# Altium footprint library Discrete.PCBLIB: 128 footprints (part 1 of 8)
Each footprint in its own frame and in the unit in brackets; x right, y up, seen from the top. Pads: shape width x height; smd on the part's side, far side on the other; paste and mask are expansions set on the pad; w line width, h text height; cw(c..) or ccw(c..) is an arc to the next point about the centre after c.
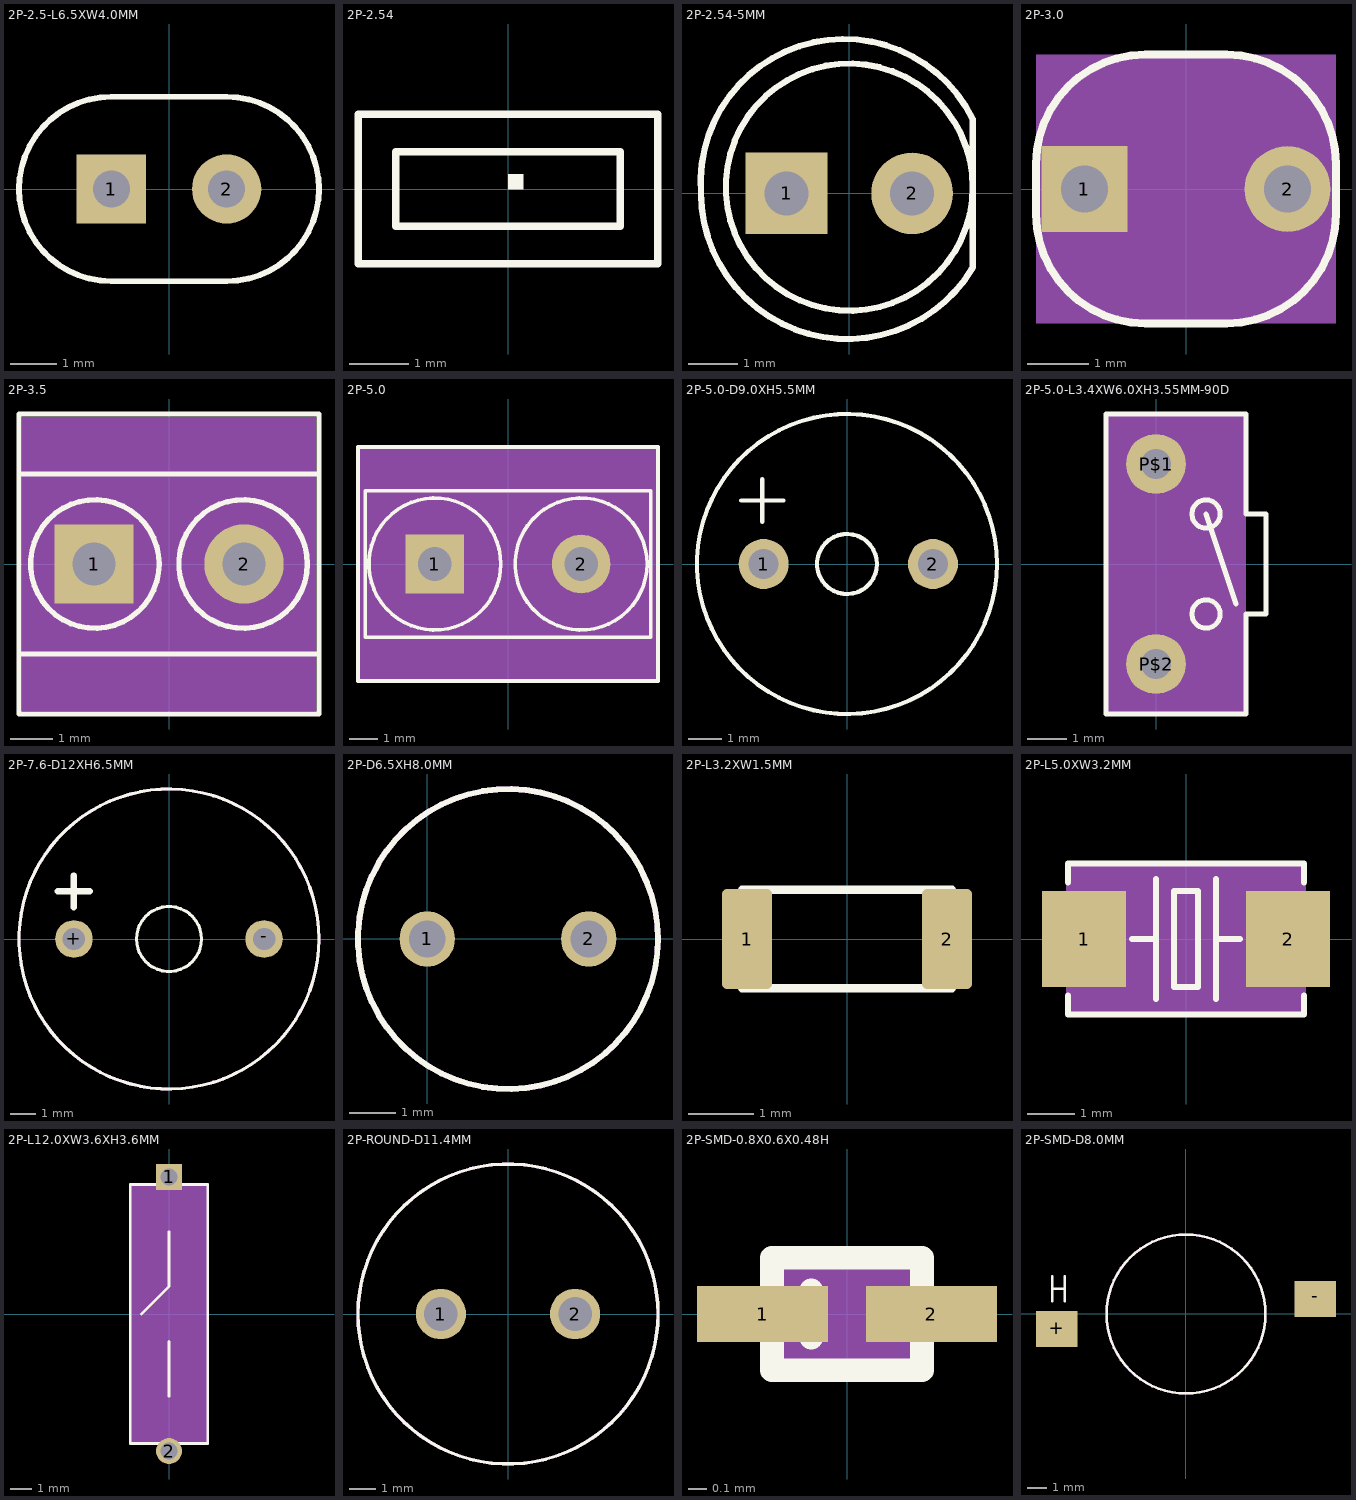
[diagram p0: the footprints below, top view; thin cyan lines are the x and y axes]

## 2P-2.5-L6.5XW4.0MM [mil]
pads (2):
  rect 59.06x59.06 hole 31.5: 1(-49.21,0)
  round 59.06 hole 31.5: 2(49.21,0)
Top Overlay:
  lines w5: -127.95,0 ccw(c-49.21,0) -49.21,-78.74 49.21,-78.74 ccw(c49.21,0) 127.95,0 ccw(c49.21,0) 49.21,78.74 -49.21,78.74 ccw(c-49.21,0) -127.95,0

## 2P-2.54 [mil]
Top Overlay:
  region: 0,0 10,0 10,10 0,10
  lines w5: -100,-50 100,-50 100,50 -100,50 -100,-50 ; -75,-25 75,-25 75,25 -75,25 -75,-25

## 2P-2.54-5MM [mil]
pads (2):
  rect 65x65 hole 35: 1(-50,0)
  round 65 hole 35: 2(50,0)
Top Overlay:
  circle w5: c0,5 r98.43
  lines w5: -118.11,0 ccw(c-1.66,0.46) 98.43,-59.06 98.43,59.06 ccw(c-4.15,8.68) -118.11,0

## 2P-3.0 [mil]
pads (2):
  rect 55x55 hole 30: 1(-65,0)
  round 55 hole 30: 2(65,0)
Top Overlay:
  lines w5: -96,-16 ccw(c-26,-16) -26,-86 26,-86 ccw(c26,-16) 96,-16 96,16 ccw(c26,16) 26,86 -26,86 ccw(c-26,16) -96,16 -96,-16
Mechanical 27:
  rectangle: -96,-86 96,86

## 2P-3.5 [mm]
pads (2):
  rect 1.85x1.85 hole 1: 1(-1.75,0)
  round 1.85 hole 1: 2(1.75,0)
Top Overlay:
  circle w0.127: c-1.73,0 r1.5
  circle w0.127: c1.73,0 r1.5
  lines w0.127: -3.5,-2.1 -3.5,-3.5 3.5,-3.5 3.5,-2.1 ; -3.5,-2.1 -3.5,2.1 ; -3.5,-2.1 3.5,-2.1 ; -3.5,2.1 -3.5,3.5 3.5,3.5 3.5,2.1 ; -3.5,2.1 3.5,2.1 ; 3.5,-2.1 3.5,2.1
Mechanical 27:
  rectangle: -3.429,-3.429 3.429,3.429

## 2P-5.0 [mil]
pads (2):
  rect 80x80 hole 46: 1(-100,0)
  round 80 hole 46: 2(100,0)
Top Overlay:
  circle w5: c-100,0 r90.14
  circle w5: c100,0 r90.14
  lines w5: -205,-160 -205,160 205,160 205,-160 -205,-160 ; -195,-100 -195,100 195,100 195,-100 -195,-100
Mechanical 27:
  region: 205,-160 205,160 -205,160 -205,-160

## 2P-5.0-D9.0XH5.5MM [mil]
pads (2):
  round 59.06 hole 35.43: 1(-98.43,0) 2(101.57,0)
Top Overlay:
  circle w5: c0,0 r177.17
  circle w5: c0,0 r35.43
  lines w5: -125,75 -75,75 ; -100,50 -100,100

## 2P-5.0-L3.4XW6.0XH3.55MM-90D [mil]
pads (2):
  round 60 hole 30: P$1(0,100) P$2(0,-100)
Top Overlay:
  circle w5: c50,50 r14.14
  circle w5: c50,-50 r14.14
  lines w5: 50,50 80,-40 ; -50,-150 90,-150 90,-50 110,-50 110,50 90,50 90,150 -50,150 -50,-150
Mechanical 27:
  rectangle: -50,-150 90,150

## 2P-7.6-D12XH6.5MM [mil]
pads (2):
  round 59.06 hole 35.43: +(-149.61,0) -(149.61,0)
Top Overlay:
  circle w5: c0,0 r236.22
  circle w5: c0,0 r51.18
  lines w10: -175,75 -150,75 ; -150,50 -150,75 ; -150,100 -150,75 ; -125,75 -150,75
Mechanical 27:
  circle w5: c0,0 r236.22

## 2P-D6.5XH8.0MM [mil]
pads (2):
  round 47.25 hole 31.5: 1(0,0) 2(137.8,0)
Top Overlay:
  circle w5: c68.9,0 r127.95
Mechanical 27:
  circle w5: c68.9,0 r127.95

## 2P-L3.2XW1.5MM [mil]
pads (2):
  rrect20% 30x60 smd: 1(-60,0) 2(60,0)
Top Overlay:
  lines w5: -62.99,-29.53 62.99,-29.53 62.99,29.53 -62.99,29.53 -62.99,-29.53

## 2P-L5.0XW3.2MM [mil]
pads (2):
  rect 70x80 smd: 1(-85,0) 2(85,0)
Top Overlay:
  lines w5: -98.43,-47.24 -98.43,-62.99 98.43,-62.99 98.43,-47.24 ; -98.43,47.24 -98.43,62.99 98.43,62.99 98.43,47.24 ; -45,0 -25,0 ; -25,-50 -25,0 ; -25,50 -25,0 ; 25,-50 25,0 ; 25,50 25,0 ; 45,0 25,0 ; -10,-40 -10,40 10,40 10,-40 -10,-40
Mechanical 16:
  rectangle: -100,-40 -50,40
  rectangle: 50,-40 100,40
Mechanical 27:
  rectangle: -100,-65 100,65

## 2P-L12.0XW3.6XH3.6MM [mil]
pads (2):
  rect 47.25x47.25 hole 31.5: 1(0,250)
  round 47.25 hole 31.5: 2(0,-250)
Top Overlay:
  lines w5: -50,0 0,50 0,150 ; 0,-150 0,-50 ; -70.87,-236.22 -70.87,236.22 70.87,236.22 70.87,-236.22 -70.87,-236.22
Mechanical 27:
  rectangle: -70,-235 70,235

## 2P-ROUND-D11.4MM [mil]
pads (2):
  round 75 hole 50: 1(-100,0) 2(100,0)
Top Overlay:
  circle w5: c0,0 r223.61
Mechanical 27:
  circle w5: c0,0 r223.61

## 2P-SMD-0.8X0.6X0.48H [mil]
pads (2):
  rect 27.56x11.81 smd: 1(-17.72,0) 2(17.72,0)
Top Overlay:
  lines w5: -7.5,-5 -7.5,5 ; -15.75,-11.81 15.75,-11.81 15.75,11.81 -15.75,11.81 -15.75,-11.81
Mechanical 27:
  rectangle: -15.75,-11.81 15.75,11.81

## 2P-SMD-D8.0MM [mil]
pads (2):
  rect 82.68x70.87 smd: +(-255.91,-29.53) -(255.91,29.53)
Top Overlay:
  circle w5: c0,0 r157.48
  lines w5: -265,25 -265,50 ; -265,75 -265,50 ; -240,25 -240,75 ; -240,50 -265,50
Mechanical 27:
  circle w5: c0,0 r157.48